# EAGLE library part HEADER-2X4-DISTINCT (library 4ms-main-parts)
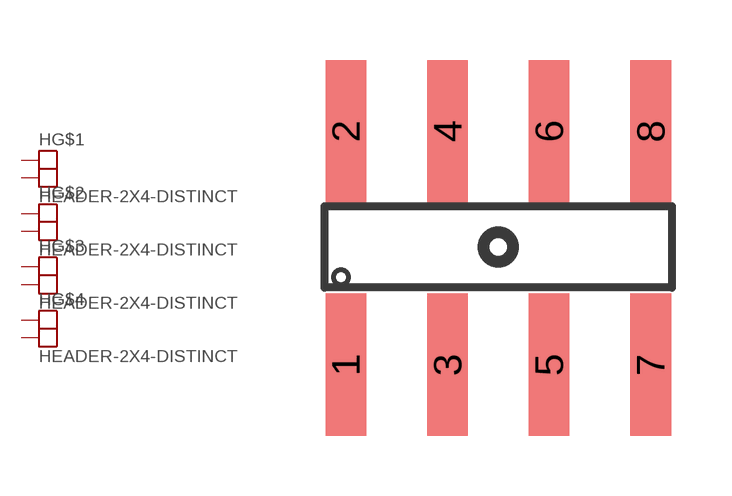
[diagram p11: symbol with the pads of HEADER-2X4-SMT; footprint HEADER-2X4-SMT]

Designator prefix H; gates G$1=HEADER-1X2 G$2=HEADER-1X2 G$3=HEADER-1X2 G$4=HEADER-1X2

## HEADER-2X4-DISTINCTSMT  [HEADER-2X4-SMT]
1  G$1:P$1
2  G$1:P$2
3  G$2:P$1
4  G$2:P$2
5  G$3:P$1
6  G$3:P$2
7  G$4:P$1
8  G$4:P$2

## Footprint HEADER-2X4-SMT (pad centres in mm)
smd 1.016 x 3.556: 1 -3.81,-2.95; 2 -3.81,2.899; 3 -1.27,-2.95; 4 -1.27,2.899; 5 1.27,-2.95; 6 1.27,2.899; 7 3.81,-2.95; 8 3.81,2.899